# Altium schematic symbol library Power Supply.SchLib: 25 symbols
Pins are listed as number, name and electrical type; pins without a type are passive.

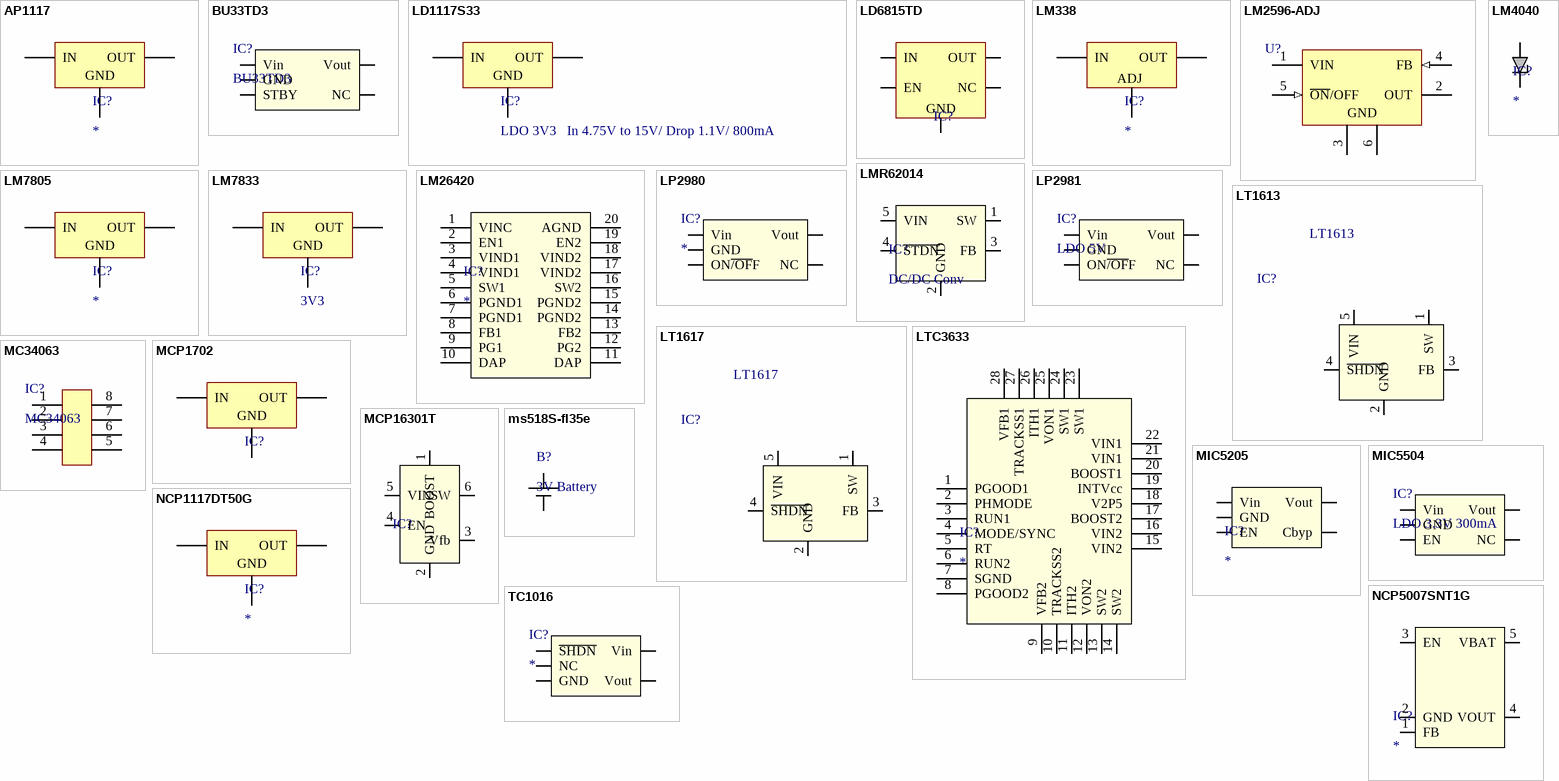
[diagram p0: symbols AP1117 to TC1016]

## AP1117
designator IC?
footprint SOT223 (SOT223, 4-Leads, Body 6.5x3.5mm, Pitch 2.3mm, Lead Span 7mm, IPC Medium Density)
pins: 1 GND (power), 2 OUT (power), 3 IN (power)

## BU33TD3
designator IC?
Name: BU33TD3; Farnell RefNum: 2342950
footprint SC-70 (SOT23, 5-Leads, Body 2,00x2,10mm, Pitch 0,65mm, IPC Medium Density)
pins: 1 Vin, 2 GND, 3 STBY, 4 NC, 5 Vout

## LD1117S33
designator IC?, comment LDO 3V3   In 4.75V to 15V/ Drop 1.1V/ 800mA
Manufacturer Part Num: LD1117S33TR
footprint SOT223 (SOT223, 4-Leads, Body 6.5x3.5mm, Pitch 2.3mm, Lead Span 7mm, IPC Medium Density)
pins: 1 GND (power), 2 OUT (power), 3 IN (power)

## LD6815TD
designator IC?, comment LDO 1.2V 150mA 2.3V-5.5V  (value not drawn)
Manufacturer Part Num: LD6815TD/12H
footprint TSSOP5 (SOT23, 5-Leads, Body 2,05x2,13mm, Pitch 0,65mm, IPC Medium Density)
pins: 1 IN (power), 2 GND (power), 3 EN (power), 4 NC, 5 OUT

## LM338
designator IC?
footprint TO-220
pins: 1 ADJ (power), 2 OUT (power), 3 IN (power)

## LM2596-ADJ
designator U?
Buck Step Down Regulator with 4.75 to 40 V Input and 5 V Output, -40 to 125 degC, 5-Pin DDPAK/TO-263 (KTT), Green (RoHS & no Sb/Br)
footprint KTT5_L (D2-PAK, 6-Leads, Body 8.9x10.2mm, Pitch 1.7mm, Lead Span 15.2mm, IPC High Density)
footprint KTT5_M (D2-PAK, 6-Leads, Body 8.9x10.2mm, Pitch 1.7mm, Lead Span 15.2mm, IPC Low Density)
footprint KTT5_N (D2-PAK, 6-Leads, Body 8.9x10.2mm, Pitch 1.7mm, Lead Span 15.2mm, IPC Medium Density)
pins: 1 VIN (power), 2 OUT (power), 3 GND (power), 4 FB (in), 5 ~{ON}/OFF (in), 6 GND (power)

## LM4040
designator IC?
Vref: 5V; Vref Tolerance: 50mV
pins: 1, 2

## LM7805
designator IC?
footprint DPAK_369C (D-PAK, 4-Leads, Body 6.1x6.6mm, Pitch 2.29mm, Lead Span 9.7mm, IPC Medium Density)
footprint SOT223 (SOT223, 4-Leads, Body 6.5x3.5mm, Pitch 2.3mm, Lead Span 7mm, IPC Medium Density)
pins: 1 IN (power), 2 GND (power), 3 OUT (power)

## LM7833
designator IC?, comment 3V3
Name: LM7833; Manufacturer URL: http://www.taitroncomponents.com/catalog/Datasheet/LM7833.pdf
footprint DPAK_369C (D-PAK, 4-Leads, Body 6.1x6.6mm, Pitch 2.29mm, Lead Span 9.7mm, IPC Medium Density)
footprint SOT223 (SOT223, 4-Leads, Body 6.5x3.5mm, Pitch 2.3mm, Lead Span 7mm, IPC Medium Density)
pins: 1 IN (power), 2 GND (power), 3 OUT (power)

## LM26420
designator IC?
Datasheet: http://www.farnell.com/datasheets/1740454.pdf
footprint SOP-20 (TSOP, 20-Leads, Body 6,50x4,40mm, Pitch 0,65mm, IPC Medium Density)
pins: 1 VINC, 2 EN1, 3 VIND1, 4 VIND1, 5 SW1, 6 PGND1, 7 PGND1, 8 FB1, 9 PG1, 10 DAP, 11 DAP, 12 PG2, 13 FB2, 14 PGND2, 15 PGND2, 16 SW2, 17 VIND2, 18 VIND2, 19 EN2, 20 AGND

## LMR62014
designator IC?, comment DC/DC Conv
Name: LMR62014; Farnell RefNum: 2323535
footprint SOT95P280X145-5N (SOT23, 5-Leads, Body 2,90x2,80mm, Pitch 0,95mm, IPC Medium Density)
pins: 1 SW, 2 GND, 3 FB, 4 ~{STDN}, 5 VIN

## LP2980
designator IC?
LDO 3.3V; Name/Value: LP2980; Farnell RefNum: 9778977
footprint SOT235 (SOT23, 5-Leads, Body 2,92x2,85mm, Pitch 0,95mm, IPC Medium Density)
pins: 1 Vin, 2 GND, 3 ON~{/OF}F, 4 NC, 5 Vout

## LP2981
designator IC?, comment LDO 5V
Name: LP2981; Farnell RefNum: 2323638
footprint SC-70 (SOT23, 5-Leads, Body 2,00x2,10mm, Pitch 0,65mm, IPC Medium Density)
pins: 1 Vin, 2 GND, 3 ON~{/OF}F, 4 NC, 5 Vout

## LT1613
designator IC?, comment Name: LT1613  (hidden comment: SEPIC DC/DC Conv)
Farnell RefNum: 2115857
footprint SOT95P280X145-5N (SOT23, 5-Leads, Body 2,90x2,80mm, Pitch 0,95mm, IPC Medium Density)
pins: 1 SW, 2 GND, 3 FB, 4 ~{SHDN}, 5 VIN

## LT1617
designator IC?, comment Name: LT1617  (hidden comment: INV  DC/DC Conv)
Farnell RefNum: 2294890
footprint SOT95P280X145-5N (SOT23, 5-Leads, Body 2,90x2,80mm, Pitch 0,95mm, IPC Medium Density)
pins: 1 SW, 2 GND, 3 FB, 4 ~{SHDN}, 5 VIN

## LTC3633
designator IC?
Datasheet: http://www.farnell.com/datasheets/1821222.pdf
footprint QFN50P400X500X75_HS-29N (QFN, 28-Leads, Body 4,00x5,00mm, Pitch 0,50mm, Thermal Pad 2,65x3,50mm, IPC Medium Density)
pins: 1 PGOOD1, 2 PHMODE, 3 RUN1, 4 MODE/SYNC, 5 RT, 6 RUN2, 7 SGND, 8 PGOOD2, 9 VFB2, 10 TRACKSS2, 11 ITH2, 12 VON2, 13 SW2, 14 SW2, 15 VIN2, 16 VIN2, 17 BOOST2, 18 V2P5, 19 INTVcc, 20 BOOST1, 21 VIN1, 22 VIN1, 23 SW1, 24 SW1, 25 VON1, 26 ITH1, 27 TRACKSS1, 28 VFB1

## MC34063
designator IC?
footprint SO-8 (SOIC, 8-Leads, Body 4,90x3,90mm, Pitch 1,27mm, IPC Medium Density)
pins: 1, 2, 3, 4, 5, 6, 7, 8

## MCP1702
designator IC?, comment LDO 3.3V  (value not drawn)
LDO 3.3V 250mA; Manufacturer Part Num: MCP1702T-3302E/MB; Iq: 2uA; Name: MCP1702; Farnell RefNum: 1605558
footprint SOT-89 (SOT89, 3-Leads, Body 4,49x2,45mm, Pitch 1,50mm, Lead Span 4,3mm, IPC Medium Density)
pins: 1 GND (power), 2 IN (power), 3 OUT (power)

## MCP16301T
designator IC?, comment Buck Conv  (value not drawn)
Name: MCP16301T; Farnell RefNum: *
footprint SOT23-6 (SOT23, 6-Leads, Body 2,90x2,70mm, Pitch 0,95mm, IPC Medium Density)
pins: 1 BOOST, 2 GND, 3 Vfb, 4 EN, 5 VIN, 6 SW

## MIC5205
designator IC?
LDO 3.6V; Name/Value: MIC5205; Farnell RefNum: 2219089
footprint SOT95P280X145-5N (SOT23, 5-Leads, Body 2,90x2,80mm, Pitch 0,95mm, IPC Medium Density)
pins: 1 Vin, 2 GND, 3 EN, 4 Cbyp, 5 Vout

## MIC5504
designator IC?, comment LDO 3.3V 300mA
Name: MIC5504; Farnell RefNum: 2451761
footprint SOT95P280X145-5N (SOT23, 5-Leads, Body 2,90x2,80mm, Pitch 0,95mm, IPC Medium Density)
pins: 1 Vin, 2 GND, 3 EN, 4 NC, 5 Vout

## ms518S-fl35e
designator B?, comment 3V Battery
Drawing: http://media.digikey.com/pdf/Data%20Sheets/Seiko%20Instruments%20PDFs/MS518S-FL35E.PDF; DigiKey: http://www.digikey.com/product-detail/en/MS518S-FL35E/728-1044-ND/1631935
pins: 1 +, 2

## NCP1117DT50G
designator IC?
Name/Value: NCP1117; Farnell RefNum: *
footprint DPAK_369C (D-PAK, 4-Leads, Body 6.1x6.6mm, Pitch 2.29mm, Lead Span 9.7mm, IPC Medium Density)
pins: 1 GND (power), 2 OUT (power), 3 IN (power)

## NCP5007SNT1G
designator IC?
LED Drv 50mA; Manufacturer Part Num: NCP5007SNT1G; Farnell RefNum: 1226291
footprint TSOP-5 (SOT23, 5-Leads, Body 3,00x2,75mm, Pitch 0,95mm, IPC Medium Density)
pins: 1 FB, 2 GND, 3 EN, 4 VOUT, 5 VBAT

## TC1016
designator IC?
LDO 3.3; Name/Value: TC1016; Farnell RefNum: *
footprint SC-70 (SOT23, 5-Leads, Body 2,00x2,10mm, Pitch 0,65mm, IPC Medium Density)
pins: 1 ~{SHDN}, 2 NC, 3 GND, 4 Vout, 5 Vin